# Altium footprint library ECS ECS-33B.PcbLib: 1 footprints
Each footprint in its own frame and in the unit in brackets; x right, y up, seen from the top. Pads: shape width x height; smd on the part's side, far side on the other; paste and mask are expansions set on the pad; w line width, h text height; cw(c..) or ccw(c..) is an arc to the next point about the centre after c.
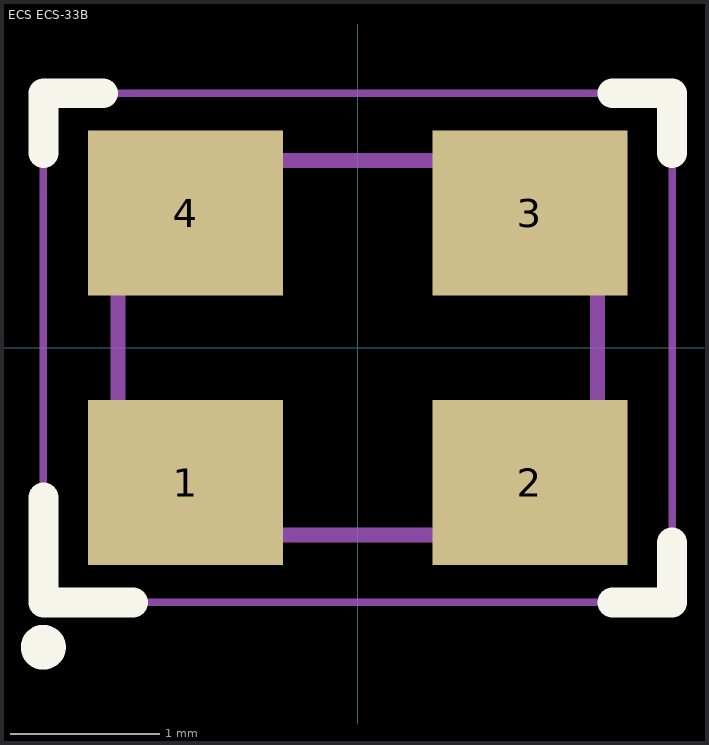
[diagram p0: the footprint, top view; thin cyan lines are the x and y axes]

## ECS ECS-33B [mm] "SMD Crystal 3.2 x 2.5mm"
height 0.8
pads (4):
  rect 1.3x1.1 smd: 1(-1.15,-0.9) 2(1.15,-0.9) 3(1.15,0.9) 4(-1.15,0.9)
Top Overlay:
  circle w0.2: c-2.1,-2 r0.05
  lines w0.2: -2.1,-1 -2.1,-1.7 -1.5,-1.7 ; -2.1,1.3 -2.1,1.7 -1.7,1.7 ; 1.7,-1.7 2.1,-1.7 2.1,-1.3 ; 1.7,1.7 2.1,1.7 2.1,1.3
Top Assembly:
  circle w0.2: c-1.333,-0.969 r0.05
  lines w0.1: -1.6,-1.25 -1.6,1.25 1.6,1.25 1.6,-1.25 -1.6,-1.25
Top Courtyard:
  lines w0.05: -2.1,-1.7 2.1,-1.7 2.1,1.7 -2.1,1.7 -2.1,-1.7
Top Designator:
  text ".Designator" at -2.999,-0.2 h0.6
3D body "ECS-160-8-33B-CTN-TR.STEP": height 0.8, standoff 0, extent -1.6,-1.25 1.6,1.25